# Altium footprint library TSOP65P240X110-6M.PcbLib: 1 footprints
Each footprint in its own frame and in the unit in brackets; x right, y up, seen from the top. Pads: shape width x height; smd on the part's side, far side on the other; paste and mask are expansions set on the pad; w line width, h text height; cw(c..) or ccw(c..) is an arc to the next point about the centre after c.
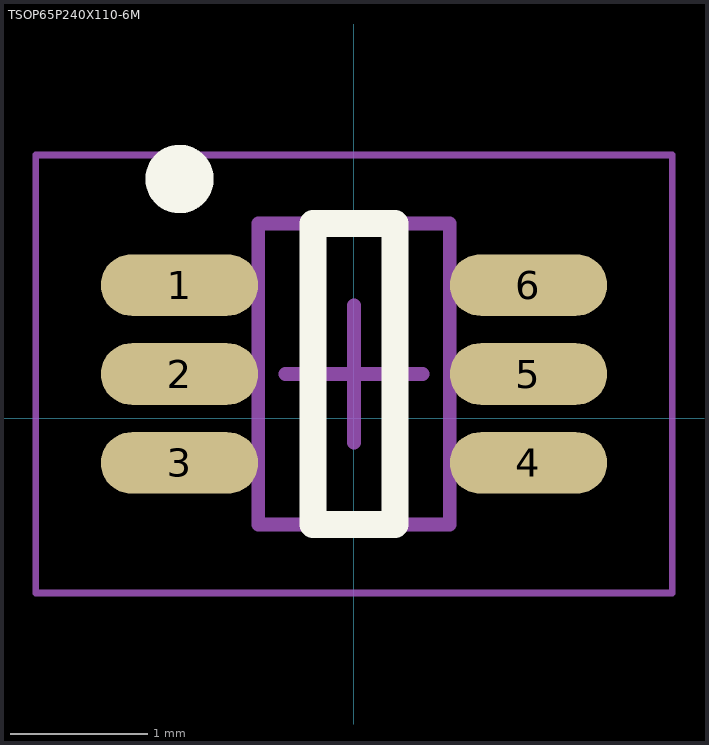
[diagram p0: the footprint, top view; thin cyan lines are the x and y axes]

## TSOP65P240X110-6M [mm] "TSOP, 6-Leads, Body 2.00x1.25mm, Pitch 0.65mm, IPC Low Density"
height 1.1
pads (6):
  oval 1.15x0.45 smd paste-0.025: 1(-1.275,0.975) 2(-1.275,0.325) 3(-1.275,-0.325) 4(1.275,-0.325) 5(1.275,0.325) 6(1.275,0.975)
Top Overlay:
  circle w0.25: c-1.275,1.75 r0.125
  lines w0.2: -0.3,-0.775 -0.3,1.425 0.3,1.425 0.3,-0.775 -0.3,-0.775
Top Solder:
  region: 1.95,1.325 0.6,1.325 0.6,-0.675 1.95,-0.675
  rectangle: -1.95,-0.675 -0.6,1.325
Top Courtyard:
  lines w0.05: -2.325,-1.275 -2.325,1.925 2.325,1.925 2.325,-1.275 -2.325,-1.275
  lines w0.1: -0.5,0.325 0.5,0.325 ; 0,-0.175 0,0.825
Mechanical 13:
  lines w0.1: -0.7,-0.775 -0.7,1.425 0.7,1.425 0.7,-0.775 -0.7,-0.775
3D body "TSOP65P240X110-6M.step": height 1.1, standoff 0, extent -1.2,-0.775 1.2,1.425